# EAGLE library part PARTICLE-MESH_FEATHERWING (library FeatherRTC)
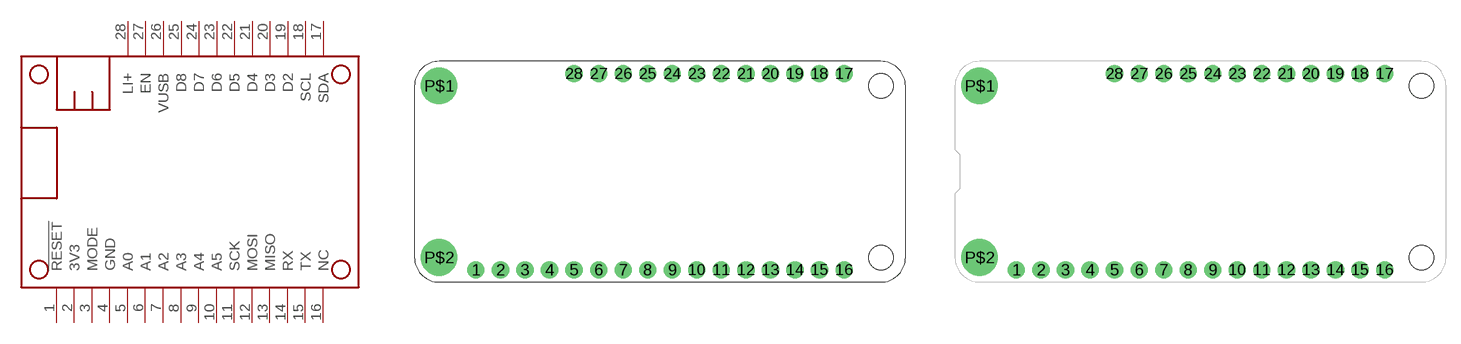
[diagram p0: symbol with the pads of PARTICLE-MESH_FEATHERWING; footprints PARTICLE-MESH_FEATHERWING, PARTICLE-MESH_FEATHERWING_NODIM]

Designator prefix MS

## PARTICLE-MESH_FEATHERWING  [PARTICLE-MESH_FEATHERWING]
1  !RESET  in
2  3V3  sup
3  MODE  pas
4  GND  pwr
5  A0
6  A1
7  A2
8  A3
9  A4
10  A5
11  SCK
12  MOSI
13  MISO
14  RX
15  TX
16  NC  pas
17  SDA
18  SCL
19  D2
20  D3
21  D4
22  D5
23  D6
24  D7
25  D8
26  VUSB  sup
27  EN  pas
28  LI+  sup

## PARTICLE-MESH_FEATHERWING_NODIM  [PARTICLE-MESH_FEATHERWING_NODIM]
Pads as for PARTICLE-MESH_FEATHERWING

## PARTICLE-MESH_FEATHERWING_NOHOLES  [PARTICLE-MESH_FEATHERWING_NOHOLES]
Pads as for PARTICLE-MESH_FEATHERWING

## PARTICLE-MESH_FEATHERWING_SMTDUAL  [PARTICLE-MESH_FEATHERWING_SMT2]
1  !RESET  in
1'  !RESET  in
2  3V3  sup
2'  3V3  sup
3  MODE  pas
3'  MODE  pas
4  GND  pwr
4'  GND  pwr
5  A0
5'  A0
6  A1
6'  A1
7  A2
7'  A2
8  A3
8'  A3
9  A4
9'  A4
10  A5
10'  A5
11  SCK
11'  SCK
12  MOSI
12'  MOSI
13  MISO
13'  MISO
14  RX
14'  RX
15  TX
15'  TX
16  NC  pas
16'  NC  pas
17  SDA
17'  SDA
18  SCL
18'  SCL
19  D2
19'  D2
20  D3
20'  D3
21  D4
21'  D4
22  D5
22'  D5
23  D6
23'  D6
24  D7
24'  D7
25  D8
25'  D8
26  VUSB  sup
26'  VUSB  sup
27  EN  pas
27'  EN  pas
28  LI+  sup
28'  LI+  sup

## Footprint PARTICLE-MESH_FEATHERWING (pad centres in mm)
drill 1 pad 1.778: 1 6.35,1.27; 2 8.89,1.27; 3 11.43,1.27; 4 13.97,1.27; 5 16.51,1.27; 6 19.05,1.27; 7 21.59,1.27; 8 24.13,1.27; 9 26.67,1.27; 10 29.21,1.27; 11 31.75,1.27; 12 34.29,1.27; 13 36.83,1.27; 14 39.37,1.27; 15 41.91,1.27; 16 44.45,1.27; 17 44.45,21.59; 18 41.91,21.59; 19 39.37,21.59; 20 36.83,21.59; 21 34.29,21.59; 22 31.75,21.59; 23 29.21,21.59; 24 26.67,21.59; 25 24.13,21.59; 26 21.59,21.59; 27 19.05,21.59; 28 16.51,21.59
drill 2.5 pad 3.81: P$1 2.54,20.32; P$2 2.54,2.54
hole 2.54 at 48.26,20.32
hole 2.54 at 48.26,2.54

## Footprint PARTICLE-MESH_FEATHERWING_NODIM (pad centres in mm)
drill 1 pad 1.778: 1 6.35,1.27; 2 8.89,1.27; 3 11.43,1.27; 4 13.97,1.27; 5 16.51,1.27; 6 19.05,1.27; 7 21.59,1.27; 8 24.13,1.27; 9 26.67,1.27; 10 29.21,1.27; 11 31.75,1.27; 12 34.29,1.27; 13 36.83,1.27; 14 39.37,1.27; 15 41.91,1.27; 16 44.45,1.27; 17 44.45,21.59; 18 41.91,21.59; 19 39.37,21.59; 20 36.83,21.59; 21 34.29,21.59; 22 31.75,21.59; 23 29.21,21.59; 24 26.67,21.59; 25 24.13,21.59; 26 21.59,21.59; 27 19.05,21.59; 28 16.51,21.59
drill 2.5 pad 3.81: P$1 2.54,20.32; P$2 2.54,2.54
hole 2.54 at 48.26,20.32
hole 2.54 at 48.26,2.54

## Footprint PARTICLE-MESH_FEATHERWING_NOHOLES (pad centres in mm)
drill 1 pad 1.778: 1 6.35,1.27; 2 8.89,1.27; 3 11.43,1.27; 4 13.97,1.27; 5 16.51,1.27; 6 19.05,1.27; 7 21.59,1.27; 8 24.13,1.27; 9 26.67,1.27; 10 29.21,1.27; 11 31.75,1.27; 12 34.29,1.27; 13 36.83,1.27; 14 39.37,1.27; 15 41.91,1.27; 16 44.45,1.27; 17 44.45,21.59; 18 41.91,21.59; 19 39.37,21.59; 20 36.83,21.59; 21 34.29,21.59; 22 31.75,21.59; 23 29.21,21.59; 24 26.67,21.59; 25 24.13,21.59; 26 21.59,21.59; 27 19.05,21.59; 28 16.51,21.59

## Footprint PARTICLE-MESH_FEATHERWING_SMT2 (pad centres in mm)
smd 1.524 x 2.54: 1 6.35,2.413; 1' 6.35,-2.413; 2 8.89,2.413; 2' 8.89,-2.413; 15 41.91,2.413; 15' 41.91,-2.413; 16 44.45,2.413; 16' 44.45,-2.413; 17 44.45,20.447; 17' 44.45,25.273; 18 41.91,20.447; 18' 41.91,25.273; 27 19.05,20.447; 27' 19.05,25.273; 28 16.51,20.447; 28' 16.51,25.273
smd 1.524 x 3.048: 3 11.43,2.159; 3' 11.43,-2.159; 4 13.97,2.159; 4' 13.97,-2.159; 5 16.51,2.159; 5' 16.51,-2.159; 6 19.05,2.159; 6' 19.05,-2.159; 7 21.59,2.159; 7' 21.59,-2.159; 8 24.13,2.159; 8' 24.13,-2.159; 9 26.67,2.159; 9' 26.67,-2.159; 10 29.21,2.159; 10' 29.21,-2.159; 11 31.75,2.159; 11' 31.75,-2.159; 12 34.29,2.159; 12' 34.29,-2.159; 13 36.83,2.159; 13' 36.83,-2.159; 14 39.37,2.159; 14' 39.37,-2.159; 19 39.37,20.701; 19' 39.37,25.019; 20 36.83,20.701; 20' 36.83,25.019; 21 34.29,20.701; 21' 34.29,25.019; 22 31.75,20.701; 22' 31.75,25.019; 23 29.21,20.701; 23' 29.21,25.019; 24 26.67,20.701; 24' 26.67,25.019; 25 24.13,20.701; 25' 24.13,25.019; 26 21.59,20.701; 26' 21.59,25.019
hole 1.8 at 17.78,22.86
hole 1.8 at 43.18,22.86
hole 1.8 at 7.62,0
hole 1.8 at 43.18,0